# Altium footprint library 2019-07-23_04-39-10.PcbLib: 3 footprints
Each footprint in its own frame and in the unit in brackets; x right, y up, seen from the top. Pads: shape width x height; smd on the part's side, far side on the other; paste and mask are expansions set on the pad; w line width, h text height; cw(c..) or ccw(c..) is an arc to the next point about the centre after c.
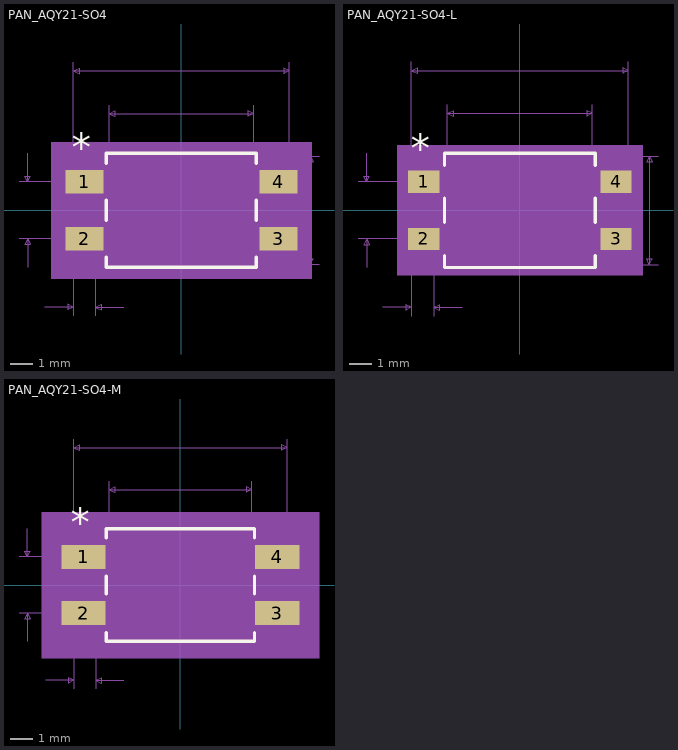
[diagram p0: the footprints below, top view; thin cyan lines are the x and y axes]

## PAN_AQY21-SO4 [mil]
pads (4):
  rect 67x41 smd paste+0 mask+0: 1(-170.5,50) 2(-170.5,-50) 3(170.5,-50) 4(170.5,50)
Top Overlay:
  lines w6: -132,-82.61 -132,-100 132,-100 132,-82.61 ; -132,-17.39 -132,17.39 ; -132,82.61 -132,100 132,100 132,82.61 ; 132,-17.39 132,17.39
  text "*" at -193,86 h50
Mechanical 5:
  region: 229,-120 -229,-120 -229,120 229,120
Mechanical 7:
  lines w1: -285.5,-50 -170.5,-50 ; -285.5,50 -170.5,50 ; -270.5,-100 -270.5,-50 ; -270.5,100 -270.5,50 ; -240,-170 -190,-170 ; -190,-185 -190,0 -190,260 ; -151,-185 -151,0 ; -127,0 -127,185 ; -101,-170 -151,-170 ; 0,-95 242,-95 ; 0,95 242,95 ; 127,0 127,185 ; 190,0 190,260 ; -270.5,-50 -275.5,-60 -265.5,-60 -270.5,-50 ; -270.5,50 -275.5,60 -265.5,60 -270.5,50 ; -190,-170 -200,-165 -200,-175 -190,-170 ; -190,245 190,245 ; -190,245 -180,250 -180,240 -190,245 ; -151,-170 -141,-165 -141,-175 -151,-170 ; -127,170 127,170 ; -127,170 -117,175 -117,165 -127,170 ; 127,170 117,175 117,165 127,170 ; 190,245 180,250 180,240 190,245 ; 227,-95 227,95 ; 227,-95 222,-85 232,-85 227,-95 ; 227,95 222,85 232,85 227,95
  text "Default Padstyle: RX67Y41D0T" at -350,-295 h50
  text "Pin One Padstyle: RX67Y41D0T" at -350,-355 h50
  text "Alt 1 Padstyle: OX60Y90D30P" at -337.5,-535 h50
  text "Alt 2 Padstyle: OX90Y60D30P" at -337.5,-595 h50
  text "0.254in/6.452mm" at -93.75,190 h25
  text "0.38in/9.652mm" at -87.5,265 h25
  text "0.19in/4.826mm" at 247,-12.5 h25
  text "0.1in/2.54mm" at -440.5,-12.5 h25
  text "0.039in/0.991mm" at -264.25,-215 h25
Mechanical 13:
  lines w0: -12,95 ccw(c0,95) 12,95
  lines w1: -190,-69.5 -190,-30.5 -127,-30.5 -127,-69.5 -190,-69.5 ; -190,30.5 -190,69.5 -127,69.5 -127,30.5 -190,30.5 ; -127,-95 127,-95 127,95 -127,95 -127,-95 ; 127,-69.5 127,-30.5 190,-30.5 190,-69.5 127,-69.5 ; 127,30.5 127,69.5 190,69.5 190,30.5 127,30.5
  text "*" at -124.5,42 h50
Mechanical 15:
  region: -137,-80.5 -214,-80.5 -214,80.5 -137,80.5 -137,105 137,105 137,80.5 214,80.5 214,-80.5 137,-80.5 137,-105 -137,-105
  lines w6: -214,-80.5 -214,80.5 -137,80.5 -137,105 137,105 137,80.5 214,80.5 214,-80.5 137,-80.5 137,-105 -137,-105 -137,-80.5 -214,-80.5
3D body: height 10, standoff 0, extent 0,0 10,10

## PAN_AQY21-SO4-L [mil]
pads (4):
  rect 55x39 smd paste+0 mask+0: 1(-168.5,50) 2(-168.5,-50) 3(168.5,-50) 4(168.5,50)
Top Overlay:
  lines w6: -132,-79.02 -132,-100 132,-100 132,-79.02 ; -132,-20.98 -132,20.98 ; -132,79.02 -132,100 132,100 132,79.02 ; 132,-20.98 132,20.98
  text "*" at -191,84 h50
Mechanical 5:
  region: 215,-114 -215,-114 -215,114 215,114
Mechanical 7:
  lines w1: -283.5,-50 -168.5,-50 ; -283.5,50 -168.5,50 ; -268.5,-100 -268.5,-50 ; -268.5,100 -268.5,50 ; -240,-170 -190,-170 ; -190,-185 -190,0 -190,260 ; -151,-185 -151,0 ; -127,0 -127,185 ; -101,-170 -151,-170 ; 0,-95 242,-95 ; 0,95 242,95 ; 127,0 127,185 ; 190,0 190,260 ; -268.5,-50 -273.5,-60 -263.5,-60 -268.5,-50 ; -268.5,50 -273.5,60 -263.5,60 -268.5,50 ; -190,-170 -200,-165 -200,-175 -190,-170 ; -190,245 190,245 ; -190,245 -180,250 -180,240 -190,245 ; -151,-170 -141,-165 -141,-175 -151,-170 ; -127,170 127,170 ; -127,170 -117,175 -117,165 -127,170 ; 127,170 117,175 117,165 127,170 ; 190,245 180,250 180,240 190,245 ; 227,-95 227,95 ; 227,-95 222,-85 232,-85 227,-95 ; 227,95 222,85 232,85 227,95
  text "Default Padstyle: RX55Y39D0T" at -350,-295 h50
  text "Pin One Padstyle: RX55Y39D0T" at -350,-355 h50
  text "Alt 1 Padstyle: OX60Y90D30P" at -337.5,-535 h50
  text "Alt 2 Padstyle: OX90Y60D30P" at -337.5,-595 h50
  text "0.254in/6.452mm" at -93.75,190 h25
  text "0.38in/9.652mm" at -87.5,265 h25
  text "0.19in/4.826mm" at 247,-12.5 h25
  text "0.1in/2.54mm" at -438.5,-12.5 h25
  text "0.039in/0.991mm" at -264.25,-215 h25
Mechanical 13:
  lines w0: -12,95 ccw(c0,95) 12,95
  lines w1: -190,-69.5 -190,-30.5 -127,-30.5 -127,-69.5 -190,-69.5 ; -190,30.5 -190,69.5 -127,69.5 -127,30.5 -190,30.5 ; -127,-95 127,-95 127,95 -127,95 -127,-95 ; 127,-69.5 127,-30.5 190,-30.5 190,-69.5 127,-69.5 ; 127,30.5 127,69.5 190,69.5 190,30.5 127,30.5
  text "*" at -124.5,42 h50
Mechanical 15:
  region: -131,-73.5 -200,-73.5 -200,73.5 -131,73.5 -131,99 131,99 131,73.5 200,73.5 200,-73.5 131,-73.5 131,-99 -131,-99
  lines w6: -200,-73.5 -200,73.5 -131,73.5 -131,99 131,99 131,73.5 200,73.5 200,-73.5 131,-73.5 131,-99 -131,-99 -131,-73.5 -200,-73.5
3D body: height 10, standoff 0, extent 0,0 10,10

## PAN_AQY21-SO4-M [mil]
pads (4):
  rect 79x43 smd paste+0 mask+0: 1(-172.5,50) 2(-172.5,-50) 3(172.5,-50) 4(172.5,50)
Top Overlay:
  lines w6: -132,-84.56 -132,-100 132,-100 132,-84.56 ; -132,-15.44 -132,15.44 ; -132,84.56 -132,100 132,100 132,84.56 ; 132,-15.44 132,15.44
  text "*" at -195,88 h50
Mechanical 5:
  region: 247,-130 -247,-130 -247,130 247,130
Mechanical 7:
  lines w1: -287.5,-50 -172.5,-50 ; -287.5,50 -172.5,50 ; -272.5,-100 -272.5,-50 ; -272.5,100 -272.5,50 ; -240,-170 -190,-170 ; -190,-185 -190,0 -190,260 ; -151,-185 -151,0 ; -127,0 -127,185 ; -101,-170 -151,-170 ; 0,-95 242,-95 ; 0,95 242,95 ; 127,0 127,185 ; 190,0 190,260 ; -272.5,-50 -277.5,-60 -267.5,-60 -272.5,-50 ; -272.5,50 -277.5,60 -267.5,60 -272.5,50 ; -190,-170 -200,-165 -200,-175 -190,-170 ; -190,245 190,245 ; -190,245 -180,250 -180,240 -190,245 ; -151,-170 -141,-165 -141,-175 -151,-170 ; -127,170 127,170 ; -127,170 -117,175 -117,165 -127,170 ; 127,170 117,175 117,165 127,170 ; 190,245 180,250 180,240 190,245 ; 227,-95 227,95 ; 227,-95 222,-85 232,-85 227,-95 ; 227,95 222,85 232,85 227,95
  text "Default Padstyle: RX79Y43D0T" at -350,-295 h50
  text "Pin One Padstyle: RX79Y43D0T" at -350,-355 h50
  text "Alt 1 Padstyle: OX60Y90D30P" at -337.5,-535 h50
  text "Alt 2 Padstyle: OX90Y60D30P" at -337.5,-595 h50
  text "0.254in/6.452mm" at -93.75,190 h25
  text "0.38in/9.652mm" at -87.5,265 h25
  text "0.19in/4.826mm" at 247,-12.5 h25
  text "0.1in/2.54mm" at -442.5,-12.5 h25
  text "0.039in/0.991mm" at -264.25,-215 h25
Mechanical 13:
  lines w0: -12,95 ccw(c0,95) 12,95
  lines w1: -190,-69.5 -190,-30.5 -127,-30.5 -127,-69.5 -190,-69.5 ; -190,30.5 -190,69.5 -127,69.5 -127,30.5 -190,30.5 ; -127,-95 127,-95 127,95 -127,95 -127,-95 ; 127,-69.5 127,-30.5 190,-30.5 190,-69.5 127,-69.5 ; 127,30.5 127,69.5 190,69.5 190,30.5 127,30.5
  text "*" at -124.5,42 h50
Mechanical 15:
  region: -147,-91.5 -232,-91.5 -232,91.5 -147,91.5 -147,115 147,115 147,91.5 232,91.5 232,-91.5 147,-91.5 147,-115 -147,-115
  lines w6: -232,-91.5 -232,91.5 -147,91.5 -147,115 147,115 147,91.5 232,91.5 232,-91.5 147,-91.5 147,-115 -147,-115 -147,-91.5 -232,-91.5
3D body: height 10, standoff 0, extent 0,0 10,10